# EAGLE library part CY8C29666_QFN48 (library cypresspsoc_0.30)
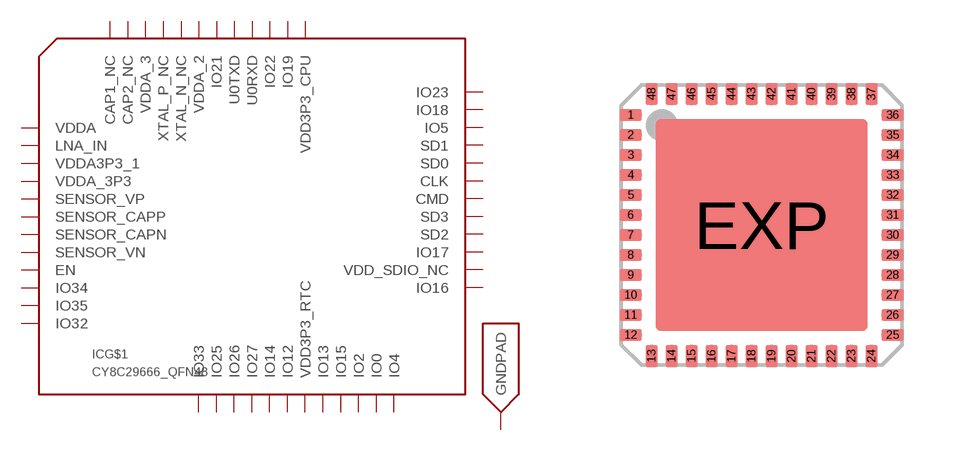
[diagram p8: symbol with the pads of QFN48; footprint QFN48]

Designator prefix IC; gates G$1=CY8C29666 G$2=GNDPAD

## CY8C29666_QFN48  [QFN48]
1  G$1:VDDA
2  G$1:LNA_IN
3  G$1:VDDA3P3_1
4  G$1:VDDA_3P3
5  G$1:SENSOR_VP
6  G$1:SENSOR_CAPP
7  G$1:SENSOR_CAPN  pwr
8  G$1:SENSOR_VN
9  G$1:EN
10  G$1:IO34
11  G$1:IO35
12  G$1:IO32
13  G$1:IO33
14  G$1:IO25
15  G$1:IO26
16  G$1:IO27
17  G$1:IO14
18  G$1:IO12  pwr
19  G$1:VDD3P3_RTC
20  G$1:IO13
21  G$1:IO15
22  G$1:IO2
23  G$1:IO0
24  G$1:IO4
25  G$1:IO16
26  G$1:VDD_SDIO_NC
27  G$1:IO17
28  G$1:SD2
29  G$1:SD3
30  G$1:CMD
31  G$1:CLK
32  G$1:SD0
33  G$1:SD1
34  G$1:IO5
35  G$1:IO18
36  G$1:IO23
37  G$1:VDD3P3_CPU
38  G$1:IO19
39  G$1:IO22
40  G$1:U0RXD
41  G$1:U0TXD
42  G$1:IO21  pwr
43  G$1:VDDA_2
44  G$1:XTAL_N_NC
45  G$1:XTAL_P_NC
46  G$1:VDDA_3
47  G$1:CAP2_NC
48  G$1:CAP1_NC
EXP  G$2:GNDPAD  pwr

## Footprint QFN48 (pad centres in mm)
48-pin QFN 7 x 7 mm LF48 48 Quad Flat Package No Leads Source: http://v4.cypress.com/cfuploads/img/products/cywusb6934.pdf
smd 0.55 x 0.3: 1 -3.275,2.75; 2 -3.275,2.25; 3 -3.275,1.75; 4 -3.275,1.25; 5 -3.275,0.75; 6 -3.275,0.25; 7 -3.275,-0.25; 8 -3.275,-0.75; 9 -3.275,-1.25; 10 -3.275,-1.75; 11 -3.275,-2.25; 12 -3.275,-2.75; 25 3.275,-2.75; 26 3.275,-2.25; 27 3.275,-1.75; 28 3.275,-1.25; 29 3.275,-0.75; 30 3.275,-0.25; 31 3.275,0.25; 32 3.275,0.75; 33 3.275,1.25; 34 3.275,1.75; 35 3.275,2.25; 36 3.275,2.75
smd 0.3 x 0.55: 13 -2.75,-3.275; 14 -2.25,-3.275; 15 -1.75,-3.275; 16 -1.25,-3.275; 17 -0.75,-3.275; 18 -0.25,-3.275; 19 0.25,-3.275; 20 0.75,-3.275; 21 1.25,-3.275; 22 1.75,-3.275; 23 2.25,-3.275; 24 2.75,-3.275; 37 2.75,3.275; 38 2.25,3.275; 39 1.75,3.275; 40 1.25,3.275; 41 0.75,3.275; 42 0.25,3.275; 43 -0.25,3.275; 44 -0.75,3.275; 45 -1.25,3.275; 46 -1.75,3.275; 47 -2.25,3.275; 48 -2.75,3.275
smd 5.309 x 5.309: EXP 0,0